# EAGLE library part CON_HRS-FXA-80 (library akita)
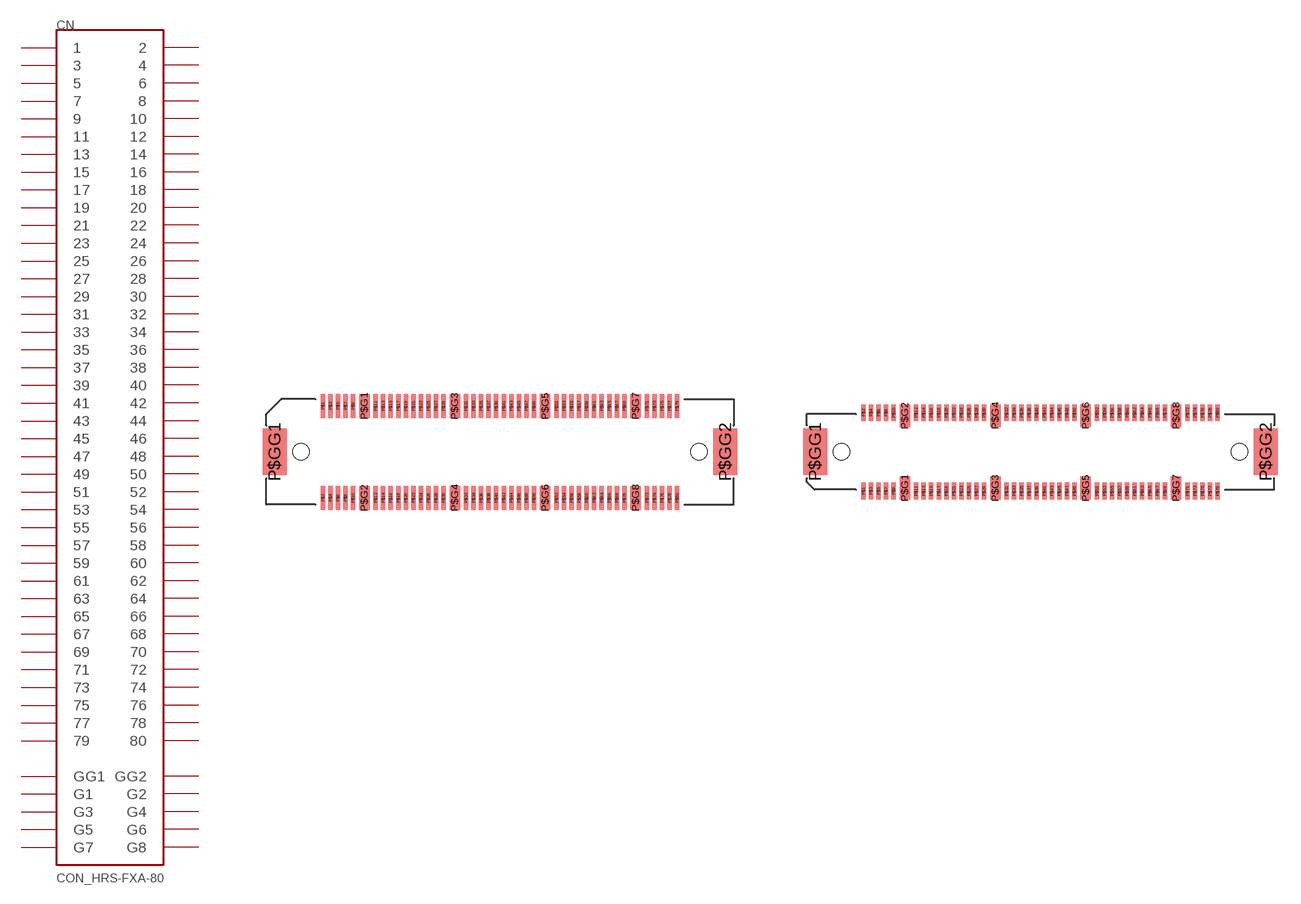
[diagram p110: symbol with the pads of CON_HRS-FX10A-80S; footprints CON_HRS-FX10A-80S, CON_HRS-FX10A-80P]

Designator prefix CN

## CON_HRS-FXA-80S  [CON_HRS-FX10A-80S]
P$1  1
P$2  2
P$3  3
P$4  4
P$5  5
P$6  6
P$7  7
P$8  8
P$9  9
P$10  10
P$11  11
P$12  12
P$13  13
P$14  14
P$15  15
P$16  16
P$17  17
P$18  18
P$19  19
P$20  20
P$21  21
P$22  22
P$23  23
P$24  24
P$25  25
P$26  26
P$27  27
P$28  28
P$29  29
P$30  30
P$31  31
P$32  32
P$33  33
P$34  34
P$35  35
P$36  36
P$37  37
P$38  38
P$39  39
P$40  40
P$41  41
P$42  42
P$43  43
P$44  44
P$45  45
P$46  46
P$47  47
P$48  48
P$49  49
P$50  50
P$51  51
P$52  52
P$53  53
P$54  54
P$55  55
P$56  56
P$57  57
P$58  58
P$59  59
P$60  60
P$61  61
P$62  62
P$63  63
P$64  64
P$65  65
P$66  66
P$67  67
P$68  68
P$69  69
P$70  70
P$71  71
P$72  72
P$73  73
P$74  74
P$75  75
P$76  76
P$77  77
P$78  78
P$79  79
P$80  80
P$G1  G1
P$G2  G2
P$G3  G3
P$G4  G4
P$G5  G5
P$G6  G6
P$G7  G7
P$G8  G8
P$GG1  GG1
P$GG2  GG2

## CON_HRS-FXA-80P  [CON_HRS-FX10A-80P]
Pads as for CON_HRS-FX10A-80S

## CON_HRS-FXA-80PNH  [CON_HRS-FX10A-80P_NOHOLE]
Pads as for CON_HRS-FX10A-80S

## Footprint CON_HRS-FX10A-80S (pad centres in mm)
smd 0.3 x 1.6: P$1 -11.75,3.05; P$2 -11.75,-3.05; P$3 -11.25,3.05; P$4 -11.25,-3.05; P$5 -10.75,3.05; P$6 -10.75,-3.05; P$7 -10.25,3.05; P$8 -10.25,-3.05; P$9 -9.75,3.05; P$10 -9.75,-3.05; P$11 -8.25,3.05; P$12 -8.25,-3.05; P$13 -7.75,3.05; P$14 -7.75,-3.05; P$15 -7.25,3.05; P$16 -7.25,-3.05; P$17 -6.75,3.05; P$18 -6.75,-3.05; P$19 -6.25,3.05; P$20 -6.25,-3.05; P$21 -5.75,3.05; P$22 -5.75,-3.05; P$23 -5.25,3.05; P$24 -5.25,-3.05; P$25 -4.75,3.05; P$26 -4.75,-3.05; P$27 -4.25,3.05; P$28 -4.25,-3.05; P$29 -3.75,3.05; P$30 -3.75,-3.05; P$31 -2.25,3.05; P$32 -2.25,-3.05; P$33 -1.75,3.05; P$34 -1.75,-3.05; P$35 -1.25,3.05; P$36 -1.25,-3.05; P$37 -0.75,3.05; P$38 -0.75,-3.05; P$39 -0.25,3.05; P$40 -0.25,-3.05; P$41 0.25,3.05; P$42 0.25,-3.05; P$43 0.75,3.05; P$44 0.75,-3.05; P$45 1.25,3.05; P$46 1.25,-3.05; P$47 1.75,3.05; P$48 1.75,-3.05; P$49 2.25,3.05; P$50 2.25,-3.05; P$51 3.75,3.05; P$52 3.75,-3.05; P$53 4.25,3.05; P$54 4.25,-3.05; P$55 4.75,3.05; P$56 4.75,-3.05; P$57 5.25,3.05; P$58 5.25,-3.05; P$59 5.75,3.05; P$60 5.75,-3.05; P$61 6.25,3.05; P$62 6.25,-3.05; P$63 6.75,3.05; P$64 6.75,-3.05; P$65 7.25,3.05; P$66 7.25,-3.05; P$67 7.75,3.05; P$68 7.75,-3.05; P$69 8.25,3.05; P$70 8.25,-3.05; P$71 9.75,3.05; P$72 9.75,-3.05; P$73 10.25,3.05; P$74 10.25,-3.05; P$75 10.75,3.05; P$76 10.75,-3.05; P$77 11.25,3.05; P$78 11.25,-3.05; P$79 11.75,3.05; P$80 11.75,-3.05
smd 0.7 x 1.6: P$G1 -9,3.05; P$G2 -9,-3.05; P$G3 -3,3.05; P$G4 -3,-3.05; P$G5 3,3.05; P$G6 3,-3.05; P$G7 9,3.05; P$G8 9,-3.05
smd 1.6 x 3.1: P$GG1 -14.95,0; P$GG2 14.95,0
hole 1.1 at -13.2,0
hole 1.1 at 13.2,0

## Footprint CON_HRS-FX10A-80P (pad centres in mm)
smd 0.3 x 1.1: P$1 -11.75,-2.6; P$2 -11.75,2.6; P$3 -11.25,-2.6; P$4 -11.25,2.6; P$5 -10.75,-2.6; P$6 -10.75,2.6; P$7 -10.25,-2.6; P$8 -10.25,2.6; P$9 -9.75,-2.6; P$10 -9.75,2.6; P$11 -8.25,-2.6; P$12 -8.25,2.6; P$13 -7.75,-2.6; P$14 -7.75,2.6; P$15 -7.25,-2.6; P$16 -7.25,2.6; P$17 -6.75,-2.6; P$18 -6.75,2.6; P$19 -6.25,-2.6; P$20 -6.25,2.6; P$21 -5.75,-2.6; P$22 -5.75,2.6; P$23 -5.25,-2.6; P$24 -5.25,2.6; P$25 -4.75,-2.6; P$26 -4.75,2.6; P$27 -4.25,-2.6; P$28 -4.25,2.6; P$29 -3.75,-2.6; P$30 -3.75,2.6; P$31 -2.25,-2.6; P$32 -2.25,2.6; P$33 -1.75,-2.6; P$34 -1.75,2.6; P$35 -1.25,-2.6; P$36 -1.25,2.6; P$37 -0.75,-2.6; P$38 -0.75,2.6; P$39 -0.25,-2.6; P$40 -0.25,2.6; P$41 0.25,-2.6; P$42 0.25,2.6; P$43 0.75,-2.6; P$44 0.75,2.6; P$45 1.25,-2.6; P$46 1.25,2.6; P$47 1.75,-2.6; P$48 1.75,2.6; P$49 2.25,-2.6; P$50 2.25,2.6; P$51 3.75,-2.6; P$52 3.75,2.6; P$53 4.25,-2.6; P$54 4.25,2.6; P$55 4.75,-2.6; P$56 4.75,2.6; P$57 5.25,-2.6; P$58 5.25,2.6; P$59 5.75,-2.6; P$60 5.75,2.6; P$61 6.25,-2.6; P$62 6.25,2.6; P$63 6.75,-2.6; P$64 6.75,2.6; P$65 7.25,-2.6; P$66 7.25,2.6; P$67 7.75,-2.6; P$68 7.75,2.6; P$69 8.25,-2.6; P$70 8.25,2.6; P$71 9.75,-2.6; P$72 9.75,2.6; P$73 10.25,-2.6; P$74 10.25,2.6; P$75 10.75,-2.6; P$76 10.75,2.6; P$77 11.25,-2.6; P$78 11.25,2.6; P$79 11.75,-2.6; P$80 11.75,2.6
smd 0.7 x 1.5: P$G1 -9,-2.4; P$G2 -9,2.4; P$G3 -3,-2.4; P$G4 -3,2.4; P$G5 3,-2.4; P$G6 3,2.4; P$G7 9,-2.4; P$G8 9,2.4
smd 1.6 x 3.1: P$GG1 -14.95,0; P$GG2 14.95,0
hole 1.1 at -13.2,0
hole 1.1 at 13.2,0

## Footprint CON_HRS-FX10A-80P_NOHOLE (pad centres in mm)
smd 0.3 x 1.1: P$1 -11.75,-2.6; P$2 -11.75,2.6; P$3 -11.25,-2.6; P$4 -11.25,2.6; P$5 -10.75,-2.6; P$6 -10.75,2.6; P$7 -10.25,-2.6; P$8 -10.25,2.6; P$9 -9.75,-2.6; P$10 -9.75,2.6; P$11 -8.25,-2.6; P$12 -8.25,2.6; P$13 -7.75,-2.6; P$14 -7.75,2.6; P$15 -7.25,-2.6; P$16 -7.25,2.6; P$17 -6.75,-2.6; P$18 -6.75,2.6; P$19 -6.25,-2.6; P$20 -6.25,2.6; P$21 -5.75,-2.6; P$22 -5.75,2.6; P$23 -5.25,-2.6; P$24 -5.25,2.6; P$25 -4.75,-2.6; P$26 -4.75,2.6; P$27 -4.25,-2.6; P$28 -4.25,2.6; P$29 -3.75,-2.6; P$30 -3.75,2.6; P$31 -2.25,-2.6; P$32 -2.25,2.6; P$33 -1.75,-2.6; P$34 -1.75,2.6; P$35 -1.25,-2.6; P$36 -1.25,2.6; P$37 -0.75,-2.6; P$38 -0.75,2.6; P$39 -0.25,-2.6; P$40 -0.25,2.6; P$41 0.25,-2.6; P$42 0.25,2.6; P$43 0.75,-2.6; P$44 0.75,2.6; P$45 1.25,-2.6; P$46 1.25,2.6; P$47 1.75,-2.6; P$48 1.75,2.6; P$49 2.25,-2.6; P$50 2.25,2.6; P$51 3.75,-2.6; P$52 3.75,2.6; P$53 4.25,-2.6; P$54 4.25,2.6; P$55 4.75,-2.6; P$56 4.75,2.6; P$57 5.25,-2.6; P$58 5.25,2.6; P$59 5.75,-2.6; P$60 5.75,2.6; P$61 6.25,-2.6; P$62 6.25,2.6; P$63 6.75,-2.6; P$64 6.75,2.6; P$65 7.25,-2.6; P$66 7.25,2.6; P$67 7.75,-2.6; P$68 7.75,2.6; P$69 8.25,-2.6; P$70 8.25,2.6; P$71 9.75,-2.6; P$72 9.75,2.6; P$73 10.25,-2.6; P$74 10.25,2.6; P$75 10.75,-2.6; P$76 10.75,2.6; P$77 11.25,-2.6; P$78 11.25,2.6; P$79 11.75,-2.6; P$80 11.75,2.6
smd 0.7 x 1.5: P$G1 -9,-2.4; P$G2 -9,2.4; P$G3 -3,-2.4; P$G4 -3,2.4; P$G5 3,-2.4; P$G6 3,2.4; P$G7 9,-2.4; P$G8 9,2.4
smd 1.6 x 3.1: P$GG1 -14.95,0; P$GG2 14.95,0